# EAGLE library part NRF8001-R2Q32-T (library IC)
IC RF TXRX BLUETOOTH 32VFQFN Manufacturer's datasheet <https://www.nordicsemi.com/-/media/DocLib/Other/Product_Spec/nRF8001PSv13.pdf>
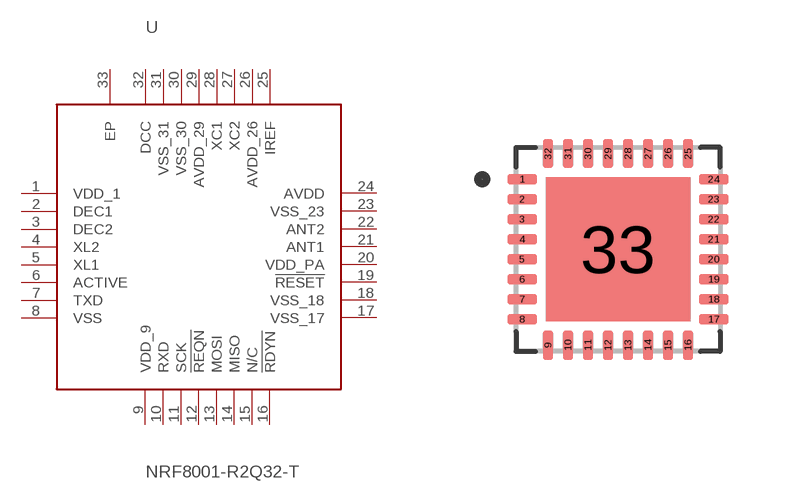
[diagram p2: symbol with the pads of QFN-32; footprint QFN-32]

Designator prefix U

## NRF8001-R2Q32-T (CREATED_BY: PCBLayout.com; DIGI_KEY_PART_NUMBER: 1490-1026-ND; MANUFACTURER: Nordic Semiconductor ASA; MPN: NRF8001-R2Q32-T; PACKAGE: 32-VFQFN)  [QFN-32]
1  VDD_1  pwr
2  DEC1  pwr
3  DEC2  pwr
4  XL2  out
5  XL1  in
6  ACTIVE  out
7  TXD  out
8  VSS  pwr
9  VDD_9  pwr
10  RXD  in
11  SCK  in
12  !REQN  out
13  MOSI  in
14  MISO  out
15  N/C  in
16  !RDYN  pwr
17  VSS_17  pwr
18  VSS_18  pwr
19  !RESET  in
20  VDD_PA  out
21  ANT1  in
22  ANT2  out
23  VSS_23  in
24  AVDD  pwr
25  IREF  out
26  AVDD_26  pwr
27  XC2  out
28  XC1  in
29  AVDD_29  pwr
30  VSS_30  out
31  VSS_31  in
32  DCC  pwr
33  EP  pwr

## Footprint QFN-32 (pad centres in mm)
Quad Flat No-Lead (QFN with Tab), 0.50 mm pitch; square, 8 pin X 8 pin, 5.00 mm L X 5.00 mm W X 0.90 mm H body PCB Libraries Packages
smd 0.74 x 0.26: 1 -2.395,1.75; 2 -2.395,1.25; 3 -2.395,0.75; 4 -2.395,0.25; 5 -2.395,-0.25; 6 -2.395,-0.75; 7 -2.395,-1.25; 8 -2.395,-1.75; 17 2.395,-1.75; 18 2.395,-1.25; 19 2.395,-0.75; 20 2.395,-0.25; 21 2.395,0.25; 22 2.395,0.75; 23 2.395,1.25; 24 2.395,1.75
smd 0.26 x 0.74: 9 -1.75,-2.395; 10 -1.25,-2.395; 11 -0.75,-2.395; 12 -0.25,-2.395; 13 0.25,-2.395; 14 0.75,-2.395; 15 1.25,-2.395; 16 1.75,-2.395; 25 1.75,2.395; 26 1.25,2.395; 27 0.75,2.395; 28 0.25,2.395; 29 -0.25,2.395; 30 -0.75,2.395; 31 -1.25,2.395; 32 -1.75,2.395
smd 3.6 x 3.6: 33 0,0